# Altium footprint library 732512120_MOLEX_modified.PcbLib: 1 footprints
Each footprint in its own frame and in the unit in brackets; x right, y up, seen from the top. Pads: shape width x height; smd on the part's side, far side on the other; paste and mask are expansions set on the pad; w line width, h text height; cw(c..) or ccw(c..) is an arc to the next point about the centre after c.
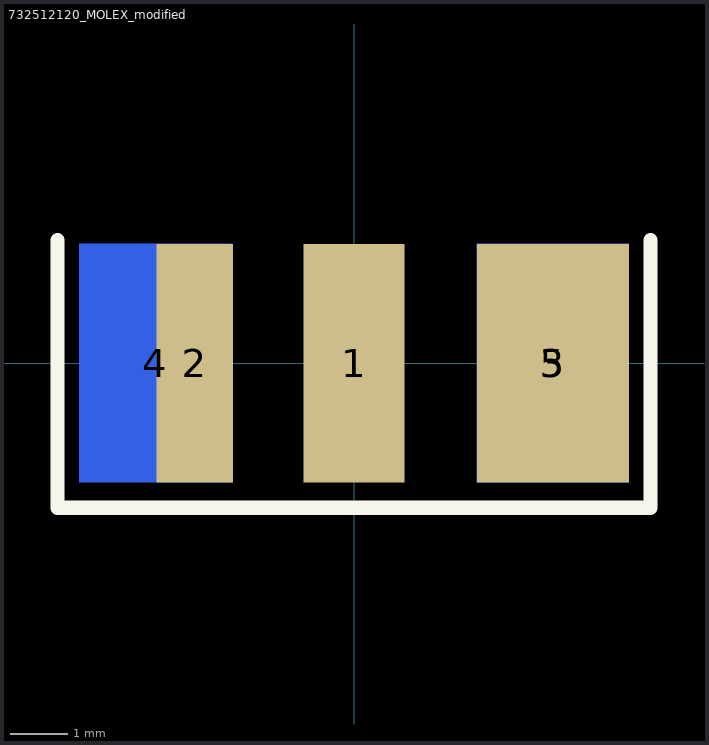
[diagram p0: the footprint, top view; thin cyan lines are the x and y axes]

## 732512120_MOLEX_modified [mil]
pads (5):
  rect 70x165 smd: 1(0,0)
  rect 53x165 smd: 2(-110,0)
  rect 105x165 smd: 3(137.5,0)
  rect 105x165 smd far side: 4(-137.5,0) 5(137.5,0)
Top Overlay:
  lines w10: -205,85 -205,-100 205,-100 205,85
Bottom Overlay:
  lines w10: -205,85 -205,-100 205,-100 205,85
3D body: height 227, standoff -177, extent -202,-60 202,580